# EAGLE library part 00SPEEDY_EE25/13/7_THT_V_10PIN (library Wurth Electronics Midcom Inc V1-0)
Package Style: Speedy EE25/13/7 Mounting: THT Pins: 10 pins Bobbin: 070-4846 Best pinouts for production vary per application. Please contact Wurth Electronics Midcom, Inc. for assistance with your custom design. Website: Wurth Electronics Midcom <http://www.we-online.com/midcom> Contact us Wurth Electronics Midcom, Inc. 121 Airport Dr. Watertown, SD 57201 Phone: (605) 886-4385 Fax: (605) 886-4486 E-Mail: midcom@we-online.com
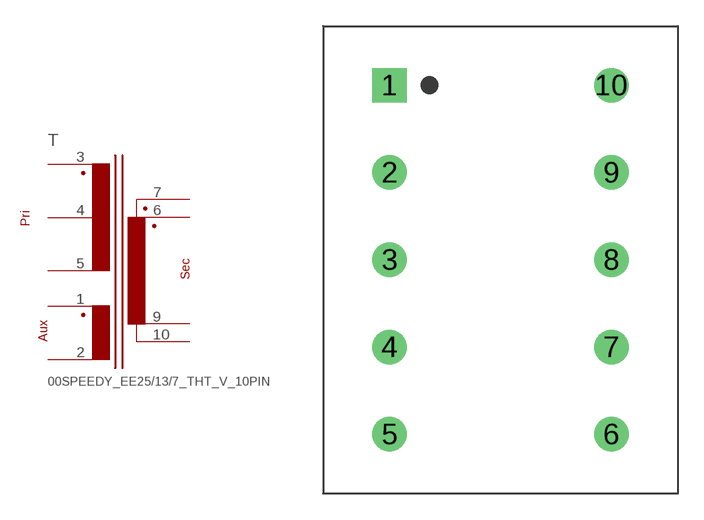
[diagram p112: symbol with the pads of 00SPEEDY_EE25/13/7_THT_V_10PIN; footprint 00SPEEDY_EE25/13/7_THT_V_10PIN]

Designator prefix T

## 00SPEEDY_EE25/13/7_THT_V_10PIN  [00SPEEDY_EE25/13/7_THT_V_10PIN]
1  4  pas
2  5  pas
3  1  pas
4  2  pas
5  3  pas
6  8  pas
7  7  pas
9  9  pas
10  6  pas

## Footprint 00SPEEDY_EE25/13/7_THT_V_10PIN (pad centres in mm)
Package Style: Speedy EE25/13/7 Mounting: THT Pins: 10 pins Bobbin: 070-4846
drill 1.321 square: 1 -6.35,10.008
drill 1.321 round: 2 -6.35,5.004; 3 -6.35,0; 4 -6.35,-5.004; 5 -6.35,-10.008; 6 6.35,-10.008; 7 6.35,-5.004; 8 6.35,0; 9 6.35,5.004; 10 6.35,10.008